# Altium footprint library Header.PcbLib: 1 footprints
Each footprint in its own frame and in the unit in brackets; x right, y up, seen from the top. Pads: shape width x height; smd on the part's side, far side on the other; paste and mask are expansions set on the pad; w line width, h text height; cw(c..) or ccw(c..) is an arc to the next point about the centre after c.
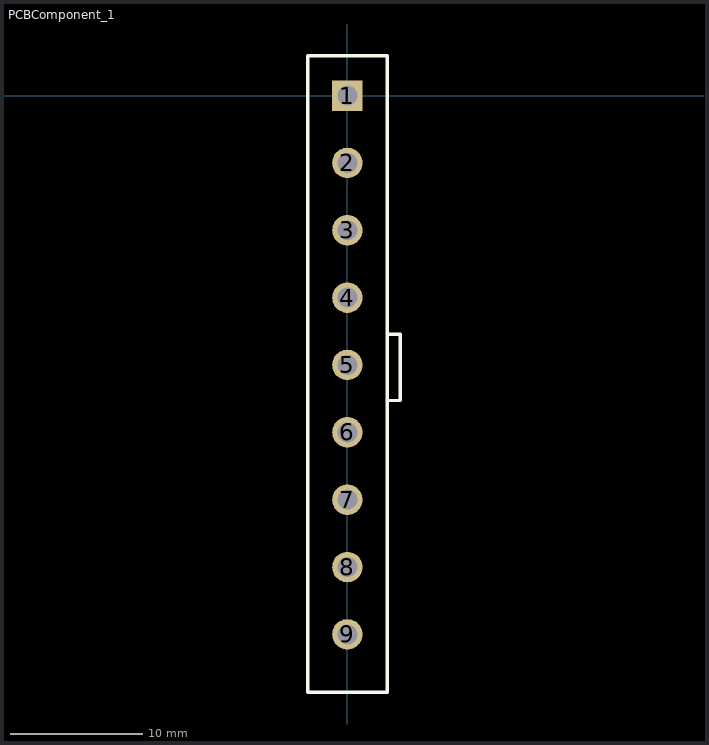
[diagram p0: the footprint, top view; thin cyan lines are the x and y axes]

## PCBComponent_1 [mm]
pads (9):
  rect 2.3x2.3 hole 1.5 square: 1(0,0)
  round 2.3 hole 1.5: 2(0,-5.08) 3(0,-10.16) 4(0,-15.24) 5(0,-20.32) 6(0,-25.4) 7(0,-30.48) 8(0,-35.56) 9(0,-40.64)
Top Overlay:
  lines w0.254: 3,-23 4,-23 4,-22 4,-18 3,-18 ; -3,-45 -3,3 3,3 3,-45 -3,-45